# EAGLE library part EE25_P1_F1_S2 (library _Transformers[Конфликт])
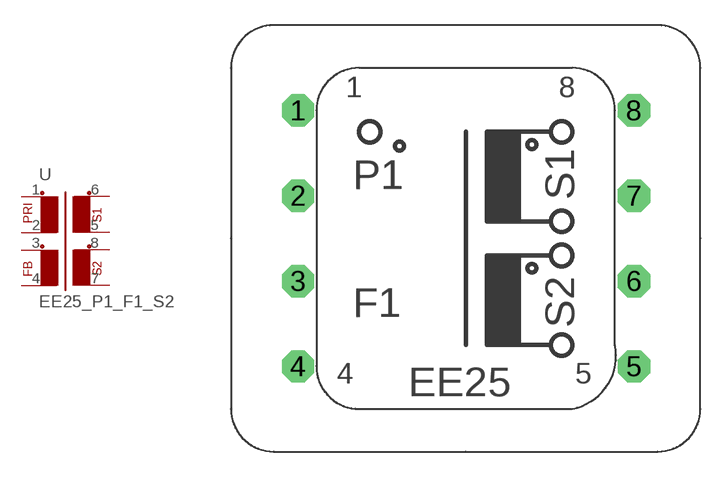
[diagram p1: symbol with the pads of EE25_P1_F1_S2; footprint EE25_P1_F1_S2]

Designator prefix -

## EE25_P1_F1_S2  [EE25_P1_F1_S2]
1  P1-1  pas
2  P1-2  pas
3  F1-1  pas
4  F1-2  pas
5  S1-2  pas
6  S1-1  pas
7  S2-2  pas
8  S2-1  pas

## Footprint EE25_P1_F1_S2 (pad centres in mm)
drill 0.5 pad 1.93 octagon: 1 -9.98,7.62; 2 -9.98,2.54; 3 -9.98,-2.54; 4 -9.98,-7.62; 5 10.02,-7.62; 6 10.02,-2.54; 7 10.02,2.54; 8 10.02,7.62